# EAGLE library part NSD15-12S12 (library dc-dc-converter)
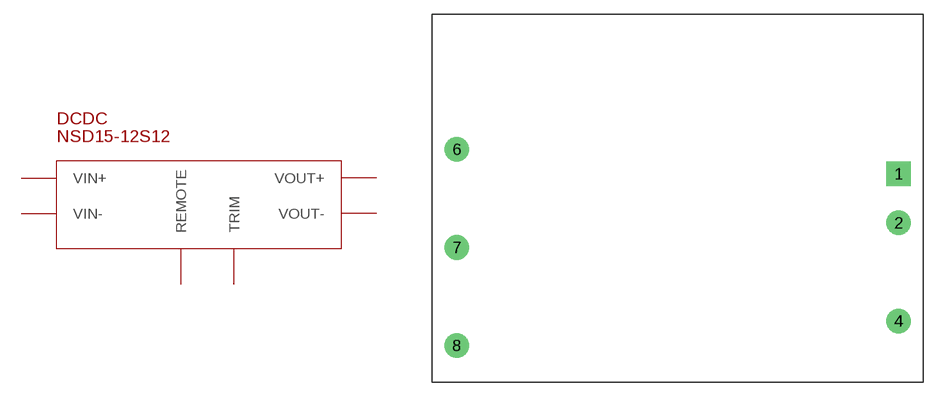
[diagram p13: symbol with the pads of NSD15-12S12; footprint NSD15-12S12]

Designator prefix DCDC

## NSD15-12S12  [NSD15-12S12]
1  VIN+
2  VIN-
4  REMOTE
6  VOUT+
7  VOUT-
8  TRIM

## Footprint NSD15-12S12 (pad centres in mm)
drill 1.143 pad 2.54 square: 1 22.86,3.81
drill 1.143 pad 2.54: 2 22.86,-1.27; 4 22.86,-11.43; 6 -22.86,6.35; 7 -22.86,-3.81; 8 -22.86,-13.97